# Altium footprint library Capacitor_THT.PcbLib: 378 footprints (part 15 of 24)
Each footprint in its own frame and in the unit in brackets; x right, y up, seen from the top. Pads: shape width x height; smd on the part's side, far side on the other; paste and mask are expansions set on the pad; w line width, h text height; cw(c..) or ccw(c..) is an arc to the next point about the centre after c.
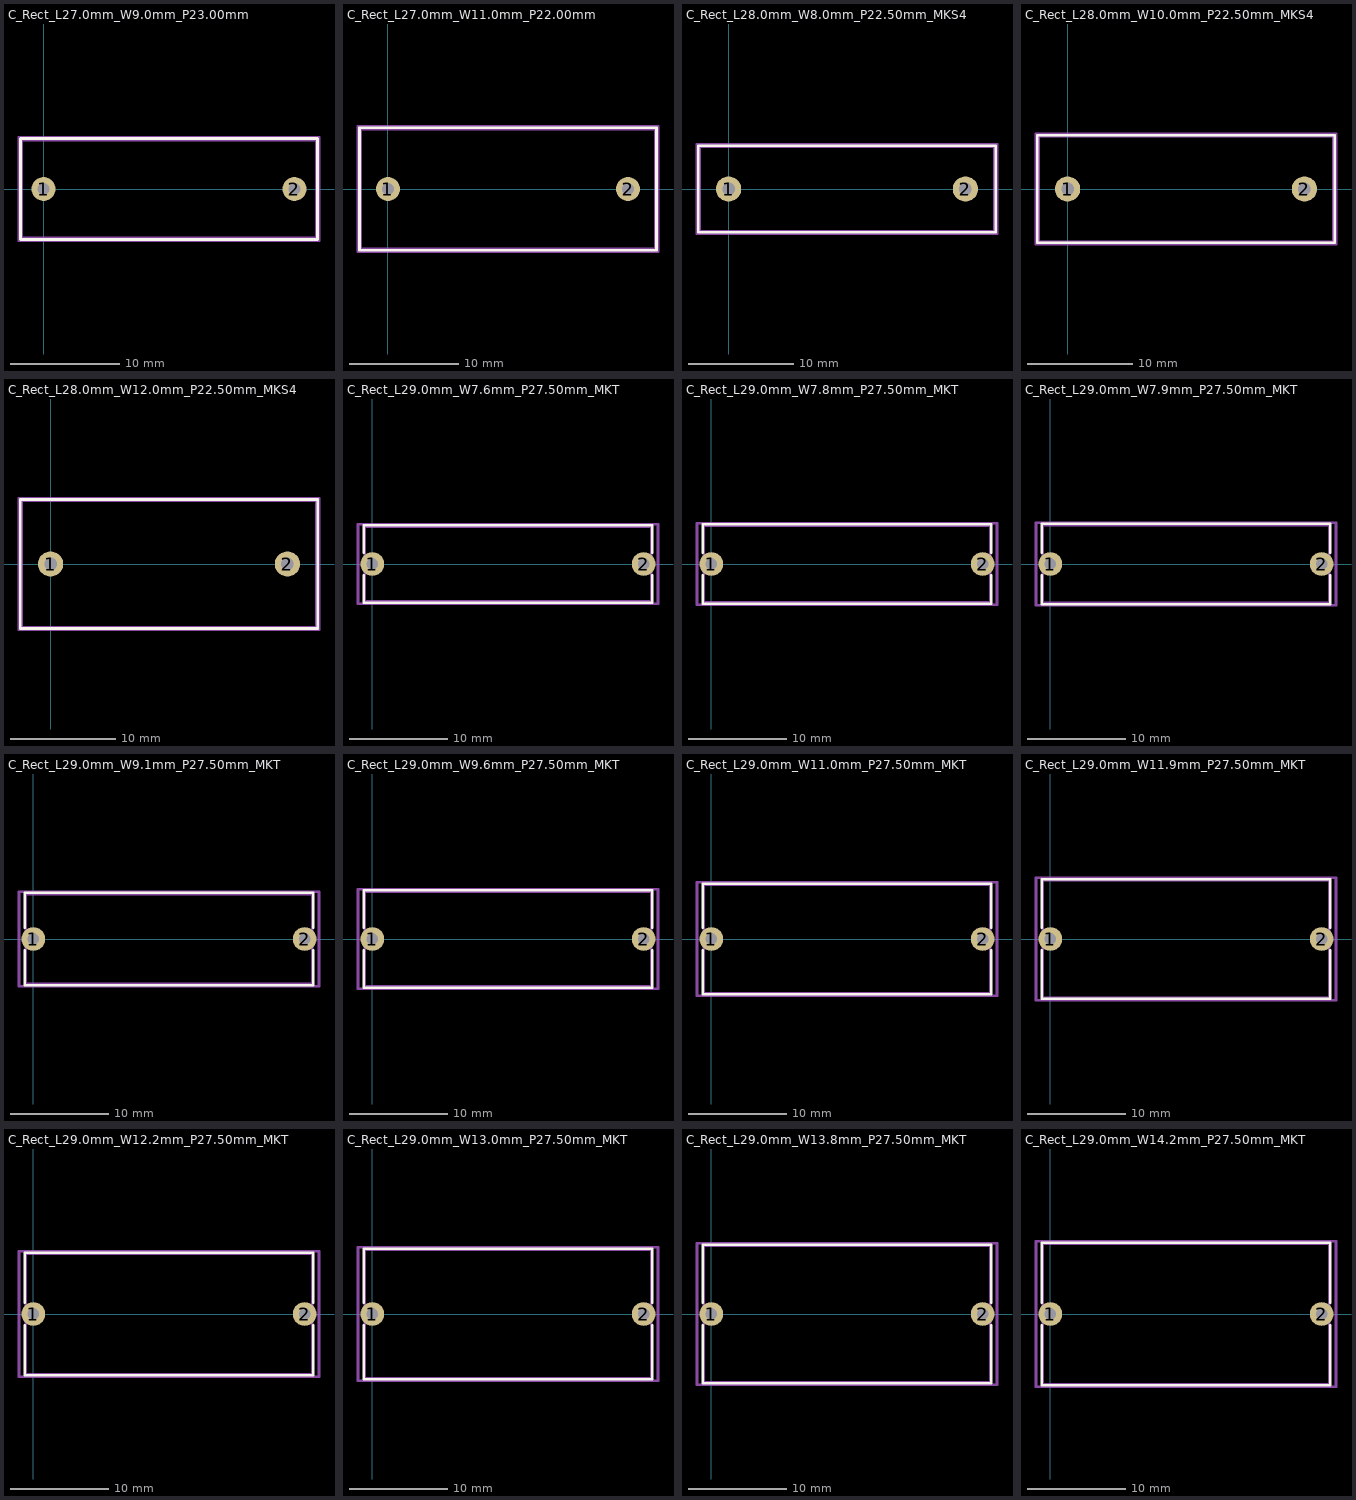
[diagram p14: the footprints below, top view; thin cyan lines are the x and y axes]

## C_Rect_L27.0mm_W9.0mm_P23.00mm [mm] "C_Rect_L27.0mm_W9.0mm_P23.00mm"
pads (2):
  round 2.2 hole 1.1: 1(0,0) 2(23,0)
F.SilkS:
  lines w0.254: -2.12,-4.62 25.12,-4.62 25.12,4.62 -2.12,4.62 -2.12,-4.62
Top Component Center:
  lines w0.127: -0.127,0 0.127,0 ; 0,-0.127 0,0.127
Top Assembly:
  lines w0.254: -2,-4.5 25,-4.5 25,4.5 -2,4.5 -2,-4.5
Top Courtyard:
  lines w0.254: -2.25,-4.75 25.25,-4.75 25.25,4.75 -2.25,4.75 -2.25,-4.75
Top Designator:
  text ".Designator" at 8.066,-0.345 h1.52
3D body "C_Rect_L27.0mm_W9.0mm_P23.00mm.step": height 21, standoff -1.9, extent -2,-4.5 25,4.5

## C_Rect_L27.0mm_W11.0mm_P22.00mm [mm] "C_Rect_L27.0mm_W11.0mm_P22.00mm"
pads (2):
  round 2.2 hole 1.1: 1(0,0) 2(22,0)
F.SilkS:
  lines w0.254: -2.62,-5.62 24.62,-5.62 24.62,5.62 -2.62,5.62 -2.62,-5.62
Top Component Center:
  lines w0.127: -0.127,0 0.127,0 ; 0,-0.127 0,0.127
Top Assembly:
  lines w0.254: -2.5,-5.5 24.5,-5.5 24.5,5.5 -2.5,5.5 -2.5,-5.5
Top Courtyard:
  lines w0.254: -2.75,-5.75 24.75,-5.75 24.75,5.75 -2.75,5.75 -2.75,-5.75
Top Designator:
  text ".Designator" at 7.566,-0.345 h1.52
3D body "C_Rect_L27.0mm_W11.0mm_P22.00mm.step": height 21, standoff -1.9, extent -2.5,-5.5 24.5,5.5

## C_Rect_L28.0mm_W8.0mm_P22.50mm_MKS4 [mm] "C_Rect_L28.0mm_W8.0mm_P22.50mm_MKS4"
pads (2):
  round 2.4 hole 1.2: 1(0,0) 2(22.5,0)
F.SilkS:
  lines w0.254: -2.87,-4.12 25.37,-4.12 25.37,4.12 -2.87,4.12 -2.87,-4.12
Top Component Center:
  lines w0.127: -0.127,0 0.127,0 ; 0,-0.127 0,0.127
Top Assembly:
  lines w0.254: -2.75,-4 25.25,-4 25.25,4 -2.75,4 -2.75,-4
Top Courtyard:
  lines w0.254: -3,-4.25 25.5,-4.25 25.5,4.25 -3,4.25 -3,-4.25
Top Designator:
  text ".Designator" at 7.816,-0.345 h1.52
3D body "C_Rect_L28.0mm_W8.0mm_P22.50mm_MKS4.step": height 21, standoff -1.9, extent -2.75,-4 25.25,4

## C_Rect_L28.0mm_W10.0mm_P22.50mm_MKS4 [mm] "C_Rect_L28.0mm_W10.0mm_P22.50mm_MKS4"
pads (2):
  round 2.4 hole 1.2: 1(0,0) 2(22.5,0)
F.SilkS:
  lines w0.254: -2.87,-5.12 25.37,-5.12 25.37,5.12 -2.87,5.12 -2.87,-5.12
Top Component Center:
  lines w0.127: -0.127,0 0.127,0 ; 0,-0.127 0,0.127
Top Assembly:
  lines w0.254: -2.75,-5 25.25,-5 25.25,5 -2.75,5 -2.75,-5
Top Courtyard:
  lines w0.254: -3,-5.25 25.5,-5.25 25.5,5.25 -3,5.25 -3,-5.25
Top Designator:
  text ".Designator" at 7.816,-0.345 h1.52
3D body "C_Rect_L28.0mm_W10.0mm_P22.50mm_MKS4.step": height 21, standoff -1.9, extent -2.75,-5 25.25,5

## C_Rect_L28.0mm_W12.0mm_P22.50mm_MKS4 [mm] "C_Rect_L28.0mm_W12.0mm_P22.50mm_MKS4"
pads (2):
  round 2.4 hole 1.2: 1(0,0) 2(22.5,0)
F.SilkS:
  lines w0.254: -2.87,-6.12 25.37,-6.12 25.37,6.12 -2.87,6.12 -2.87,-6.12
Top Component Center:
  lines w0.127: -0.127,0 0.127,0 ; 0,-0.127 0,0.127
Top Assembly:
  lines w0.254: -2.75,-6 25.25,-6 25.25,6 -2.75,6 -2.75,-6
Top Courtyard:
  lines w0.254: -3,-6.25 25.5,-6.25 25.5,6.25 -3,6.25 -3,-6.25
Top Designator:
  text ".Designator" at 7.816,-0.345 h1.52
3D body "C_Rect_L28.0mm_W12.0mm_P22.50mm_MKS4.step": height 21, standoff -1.9, extent -2.75,-6 25.25,6

## C_Rect_L29.0mm_W7.6mm_P27.50mm_MKT [mm] "C_Rect_L29.0mm_W7.6mm_P27.50mm_MKT"
pads (2):
  round 2.4 hole 1.2: 1(0,0) 2(27.5,0)
F.SilkS:
  lines w0.254: -0.87,-1.147 -0.87,-3.92 28.37,-3.92 28.37,-1.147 ; -0.87,1.147 -0.87,3.92 28.37,3.92 28.37,1.147
Top Component Center:
  lines w0.127: -0.127,0 0.127,0 ; 0,-0.127 0,0.127
Top Assembly:
  lines w0.254: -0.75,-3.8 28.25,-3.8 28.25,3.8 -0.75,3.8 -0.75,-3.8
Top Courtyard:
  lines w0.254: -1.45,-4.05 28.95,-4.05 28.95,4.05 -1.45,4.05 -1.45,-4.05
Top Designator:
  text ".Designator" at 10.316,-0.345 h1.52
3D body "C_Rect_L29.0mm_W7.6mm_P27.50mm_MKT.step": height 19, standoff -1.9, extent -0.45,-3.8 27.95,3.8

## C_Rect_L29.0mm_W7.8mm_P27.50mm_MKT [mm] "C_Rect_L29.0mm_W7.8mm_P27.50mm_MKT"
pads (2):
  round 2.4 hole 1.2: 1(0,0) 2(27.5,0)
F.SilkS:
  lines w0.254: -0.87,-1.147 -0.87,-4.02 28.37,-4.02 28.37,-1.147 ; -0.87,1.147 -0.87,4.02 28.37,4.02 28.37,1.147
Top Component Center:
  lines w0.127: -0.127,0 0.127,0 ; 0,-0.127 0,0.127
Top Assembly:
  lines w0.254: -0.75,-3.9 28.25,-3.9 28.25,3.9 -0.75,3.9 -0.75,-3.9
Top Courtyard:
  lines w0.254: -1.45,-4.15 28.95,-4.15 28.95,4.15 -1.45,4.15 -1.45,-4.15
Top Designator:
  text ".Designator" at 10.316,-0.345 h1.52
3D body "C_Rect_L29.0mm_W7.8mm_P27.50mm_MKT.step": height 19, standoff -1.9, extent -0.45,-3.9 27.95,3.9

## C_Rect_L29.0mm_W7.9mm_P27.50mm_MKT [mm] "C_Rect_L29.0mm_W7.9mm_P27.50mm_MKT"
pads (2):
  round 2.4 hole 1.2: 1(0,0) 2(27.5,0)
F.SilkS:
  lines w0.254: -0.87,-1.147 -0.87,-4.07 28.37,-4.07 28.37,-1.147 ; -0.87,1.147 -0.87,4.07 28.37,4.07 28.37,1.147
Top Component Center:
  lines w0.127: -0.127,0 0.127,0 ; 0,-0.127 0,0.127
Top Assembly:
  lines w0.254: -0.75,-3.95 -0.75,3.95 28.25,3.95 28.25,-3.95 -0.75,-3.95
Top Courtyard:
  lines w0.254: -1.45,-4.2 -1.45,4.2 28.95,4.2 28.95,-4.2 -1.45,-4.2
Top Designator:
  text ".Designator" at 10.316,-0.345 h1.52
3D body "C_Rect_L29.0mm_W7.9mm_P27.50mm_MKT.step": height 19, standoff -1.9, extent -0.45,-3.95 27.95,3.95

## C_Rect_L29.0mm_W9.1mm_P27.50mm_MKT [mm] "C_Rect_L29.0mm_W9.1mm_P27.50mm_MKT"
pads (2):
  round 2.4 hole 1.2: 1(0,0) 2(27.5,0)
F.SilkS:
  lines w0.254: -0.87,-1.147 -0.87,-4.67 28.37,-4.67 28.37,-1.147 ; -0.87,1.147 -0.87,4.67 28.37,4.67 28.37,1.147
Top Component Center:
  lines w0.127: -0.127,0 0.127,0 ; 0,-0.127 0,0.127
Top Assembly:
  lines w0.254: -0.75,-4.55 28.25,-4.55 28.25,4.55 -0.75,4.55 -0.75,-4.55
Top Courtyard:
  lines w0.254: -1.45,-4.8 28.95,-4.8 28.95,4.8 -1.45,4.8 -1.45,-4.8
Top Designator:
  text ".Designator" at 10.316,-0.345 h1.52
3D body "C_Rect_L29.0mm_W9.1mm_P27.50mm_MKT.step": height 19, standoff -1.9, extent -0.45,-4.55 27.95,4.55

## C_Rect_L29.0mm_W9.6mm_P27.50mm_MKT [mm] "C_Rect_L29.0mm_W9.6mm_P27.50mm_MKT"
pads (2):
  round 2.4 hole 1.2: 1(0,0) 2(27.5,0)
F.SilkS:
  lines w0.254: -0.87,-1.147 -0.87,-4.92 28.37,-4.92 28.37,-1.147 ; -0.87,1.147 -0.87,4.92 28.37,4.92 28.37,1.147
Top Component Center:
  lines w0.127: -0.127,0 0.127,0 ; 0,-0.127 0,0.127
Top Assembly:
  lines w0.254: -0.75,-4.8 -0.75,4.8 28.25,4.8 28.25,-4.8 -0.75,-4.8
Top Courtyard:
  lines w0.254: -1.45,-5.05 -1.45,5.05 28.95,5.05 28.95,-5.05 -1.45,-5.05
Top Designator:
  text ".Designator" at 10.316,-0.345 h1.52

## C_Rect_L29.0mm_W11.0mm_P27.50mm_MKT [mm] "C_Rect_L29.0mm_W11.0mm_P27.50mm_MKT"
pads (2):
  round 2.4 hole 1.2: 1(0,0) 2(27.5,0)
F.SilkS:
  lines w0.254: -0.87,-1.147 -0.87,-5.62 28.37,-5.62 28.37,-1.147 ; -0.87,1.147 -0.87,5.62 28.37,5.62 28.37,1.147
Top Component Center:
  lines w0.127: -0.127,0 0.127,0 ; 0,-0.127 0,0.127
Top Assembly:
  lines w0.254: -0.75,-5.5 -0.75,5.5 28.25,5.5 28.25,-5.5 -0.75,-5.5
Top Courtyard:
  lines w0.254: -1.45,-5.75 -1.45,5.75 28.95,5.75 28.95,-5.75 -1.45,-5.75
Top Designator:
  text ".Designator" at 10.282,-0.345 h1.52
3D body "C_Rect_L29.0mm_W11.0mm_P27.50mm_MKT.step": height 19, standoff -1.9, extent -0.45,-5.5 27.95,5.5

## C_Rect_L29.0mm_W11.9mm_P27.50mm_MKT [mm] "C_Rect_L29.0mm_W11.9mm_P27.50mm_MKT"
pads (2):
  round 2.4 hole 1.2: 1(0,0) 2(27.5,0)
F.SilkS:
  lines w0.254: -0.87,-1.147 -0.87,-6.07 28.37,-6.07 28.37,-1.147 ; -0.87,1.147 -0.87,6.07 28.37,6.07 28.37,1.147
Top Component Center:
  lines w0.127: -0.127,0 0.127,0 ; 0,-0.127 0,0.127
Top Assembly:
  lines w0.254: -0.75,-5.95 -0.75,5.95 28.25,5.95 28.25,-5.95 -0.75,-5.95
Top Courtyard:
  lines w0.254: -1.45,-6.2 -1.45,6.2 28.95,6.2 28.95,-6.2 -1.45,-6.2
Top Designator:
  text ".Designator" at 10.155,-0.345 h1.52
3D body "C_Rect_L29.0mm_W11.9mm_P27.50mm_MKT.step": height 19, standoff -1.9, extent -0.45,-5.95 27.95,5.95

## C_Rect_L29.0mm_W12.2mm_P27.50mm_MKT [mm] "C_Rect_L29.0mm_W12.2mm_P27.50mm_MKT"
pads (2):
  round 2.4 hole 1.2: 1(0,0) 2(27.5,0)
F.SilkS:
  lines w0.254: -0.87,-1.147 -0.87,-6.22 28.37,-6.22 28.37,-1.147 ; -0.87,1.147 -0.87,6.22 28.37,6.22 28.37,1.147
Top Component Center:
  lines w0.127: -0.127,0 0.127,0 ; 0,-0.127 0,0.127
Top Assembly:
  lines w0.254: -0.75,-6.1 28.25,-6.1 28.25,6.1 -0.75,6.1 -0.75,-6.1
Top Courtyard:
  lines w0.254: -1.45,-6.35 28.95,-6.35 28.95,6.35 -1.45,6.35 -1.45,-6.35
Top Designator:
  text ".Designator" at 10.316,-0.345 h1.52
3D body "C_Rect_L29.0mm_W12.2mm_P27.50mm_MKT.step": height 19, standoff -1.9, extent -0.45,-6.1 27.95,6.1

## C_Rect_L29.0mm_W13.0mm_P27.50mm_MKT [mm] "C_Rect_L29.0mm_W13.0mm_P27.50mm_MKT"
pads (2):
  round 2.4 hole 1.2: 1(0,0) 2(27.5,0)
F.SilkS:
  lines w0.254: -0.87,-1.147 -0.87,-6.62 28.37,-6.62 28.37,-1.147 ; -0.87,1.147 -0.87,6.62 28.37,6.62 28.37,1.147
Top Component Center:
  lines w0.127: -0.127,0 0.127,0 ; 0,-0.127 0,0.127
Top Assembly:
  lines w0.254: -0.75,-6.5 28.25,-6.5 28.25,6.5 -0.75,6.5 -0.75,-6.5
Top Courtyard:
  lines w0.254: -1.45,-6.75 28.95,-6.75 28.95,6.75 -1.45,6.75 -1.45,-6.75
Top Designator:
  text ".Designator" at 10.409,-0.472 h1.52
3D body "C_Rect_L29.0mm_W13.0mm_P27.50mm_MKT.step": height 19, standoff -1.9, extent -0.45,-6.5 27.95,6.5

## C_Rect_L29.0mm_W13.8mm_P27.50mm_MKT [mm] "C_Rect_L29.0mm_W13.8mm_P27.50mm_MKT"
pads (2):
  round 2.4 hole 1.2: 1(0,0) 2(27.5,0)
F.SilkS:
  lines w0.254: -0.87,-1.147 -0.87,-7.02 28.37,-7.02 28.37,-1.147 ; -0.87,1.147 -0.87,7.02 28.37,7.02 28.37,1.147
Top Component Center:
  lines w0.127: -0.127,0 0.127,0 ; 0,-0.127 0,0.127
Top Assembly:
  lines w0.254: -0.75,-6.9 28.25,-6.9 28.25,6.9 -0.75,6.9 -0.75,-6.9
Top Courtyard:
  lines w0.254: -1.45,-7.15 28.95,-7.15 28.95,7.15 -1.45,7.15 -1.45,-7.15
Top Designator:
  text ".Designator" at 10.316,-0.345 h1.52
3D body "C_Rect_L29.0mm_W13.8mm_P27.50mm_MKT.step": height 19, standoff -1.9, extent -0.45,-6.9 27.95,6.9

## C_Rect_L29.0mm_W14.2mm_P27.50mm_MKT [mm] "C_Rect_L29.0mm_W14.2mm_P27.50mm_MKT"
pads (2):
  round 2.4 hole 1.2: 1(0,0) 2(27.5,0)
F.SilkS:
  lines w0.254: -0.87,-1.147 -0.87,-7.22 28.37,-7.22 28.37,-1.147 ; -0.87,1.147 -0.87,7.22 28.37,7.22 28.37,1.147
Top Component Center:
  lines w0.127: -0.127,0 0.127,0 ; 0,-0.127 0,0.127
Top Assembly:
  lines w0.254: -0.75,-7.1 28.25,-7.1 28.25,7.1 -0.75,7.1 -0.75,-7.1
Top Courtyard:
  lines w0.254: -1.45,-7.35 28.95,-7.35 28.95,7.35 -1.45,7.35 -1.45,-7.35
Top Designator:
  text ".Designator" at 10.316,-0.345 h1.52
3D body "C_Rect_L29.0mm_W14.2mm_P27.50mm_MKT.step": height 19, standoff -1.9, extent -0.45,-7.1 27.95,7.1